# EAGLE library part PCM1808 (library rpiadc)
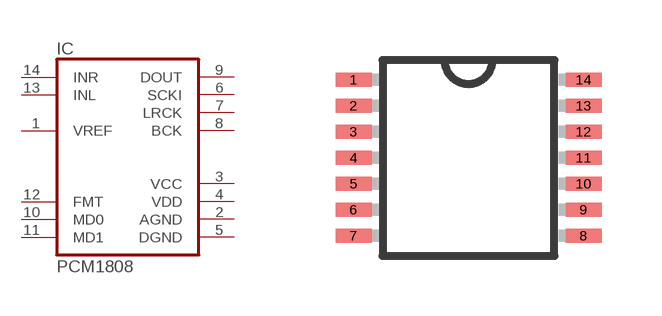
[diagram p2: symbol with the pads of TSSOP14; footprint TSSOP14]

Designator prefix IC

## PCM1808  [TSSOP14]
1  VREF  pas
2  AGND  pwr
3  VCC  pwr
4  VDD  pwr
5  DGND  pwr
6  SCKI
7  LRCK
8  BCK
9  DOUT  out
10  MD0  in
11  MD1  in
12  FMT  in
13  INL  in
14  INR  in

## Footprint TSSOP14 (pad centres in mm)
14-Lead Thin Shrink Small Outline Package [TSSOP] Source: Analog Devices .. 780914713ADD8704_0.pdf
smd 0.9 x 0.35: 1 -2.875,1.95; 2 -2.875,1.3; 3 -2.875,0.65; 4 -2.875,0; 5 -2.875,-0.65; 6 -2.875,-1.3; 7 -2.875,-1.95; 8 2.875,-1.95; 9 2.875,-1.3; 10 2.875,-0.65; 11 2.875,0; 12 2.875,0.65; 13 2.875,1.3; 14 2.875,1.95